# EAGLE library part TPS62175DQCR (library TPS62175DQCR)
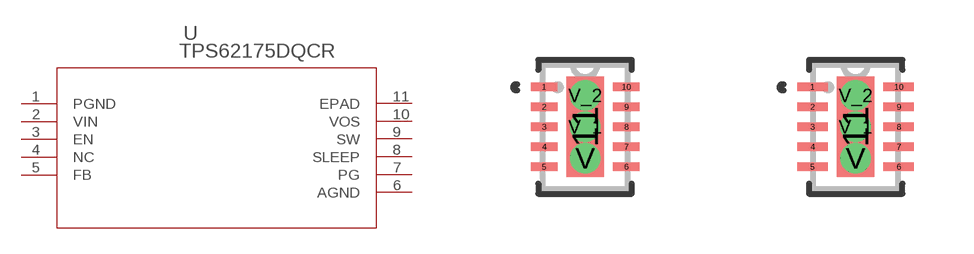
[diagram p0: symbol with the pads of DQC10_P84X2P4; footprints DQC10_P84X2P4, DQC10_P84X2P4-M]

Designator prefix U

## TPS62175DQCR (MANUFACTURER_PART_NUMBER: TPS62175DQCR; VENDOR: Texas Instruments)  [DQC10_P84X2P4]
1  PGND  pwr
2  VIN  in
3  EN  in
4  NC  nc
5  FB  in
6  AGND  pwr
7  PG  out
8  SLEEP  in
9  SW  out
10  VOS  in
11  EPAD  pas

## TPS62175DQCRDQC10_P84X2P4-M (MANUFACTURER_PART_NUMBER: TPS62175DQCR; VENDOR: Texas Instruments)  [DQC10_P84X2P4-M]
Pads as for DQC10_P84X2P4

## TPS62175DQCRDQC10_P84X2P4-L (MANUFACTURER_PART_NUMBER: TPS62175DQCR; VENDOR: Texas Instruments)  [DQC10_P84X2P4-L]
Pads as for DQC10_P84X2P4

## Footprint DQC10_P84X2P4 (pad centres in mm)
smd 0.66 x 0.203: 1 -1.029,1; 2 -1.029,0.5; 3 -1.029,0; 4 -1.029,-0.5; 5 -1.029,-1; 6 1.029,-1; 7 1.029,-0.5; 8 1.029,0; 9 1.029,0.5; 10 1.029,1
smd 0.94 x 2.515: 11 0,0
drill 0.254 pad 0.508: V 0,-0.787; V_1 0,0; V_2 0,0.787

## Footprint DQC10_P84X2P4-M (pad centres in mm)
smd 0.762 x 0.203: 1 -1.079,1; 2 -1.079,0.5; 3 -1.079,0; 4 -1.079,-0.5; 5 -1.079,-1; 6 1.079,-1; 7 1.079,-0.5; 8 1.079,0; 9 1.079,0.5; 10 1.079,1
smd 0.94 x 2.515: 11 0,0
drill 0.254 pad 0.508: V 0,-0.787; V_1 0,0; V_2 0,0.787

## Footprint DQC10_P84X2P4-L (pad centres in mm)
smd 0.559 x 0.203: 1 -0.978,1; 2 -0.978,0.5; 3 -0.978,0; 4 -0.978,-0.5; 5 -0.978,-1; 6 0.978,-1; 7 0.978,-0.5; 8 0.978,0; 9 0.978,0.5; 10 0.978,1
smd 0.94 x 2.515: 11 0,0
drill 0.254 pad 0.508: V 0,-0.787; V_1 0,0; V_2 0,0.787